# EAGLE library part USB-HPL511 (library Aldebaran)
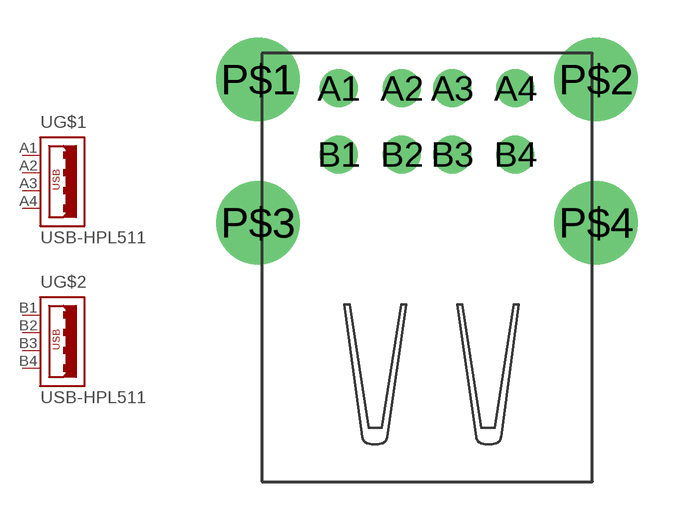
[diagram p5: symbol with the pads of USB-HPL511; footprint USB-HPL511]

Designator prefix -; gates G$1=USB4 G$2=USB4

## USB-HPL511  [USB-HPL511]
A1  G$1:1  pas
A2  G$1:2  pas
A3  G$1:3  pas
A4  G$1:4  pas
B1  G$2:1  pas
B2  G$2:2  pas
B3  G$2:3  pas
B4  G$2:4  pas

## Footprint USB-HPL511 (pad centres in mm)
drill 1: A1 3.05,15.61; A2 5.55,15.61; A3 7.55,15.61; A4 10.05,15.61; B1 3.05,12.99; B2 5.55,12.99; B3 7.55,12.99; B4 10.05,12.99
drill 2.3: P$1 -0.15,15.96; P$2 13.25,15.96; P$3 -0.15,10.28; P$4 13.25,10.28